# EAGLE library part IP4252CZ8-4-TTL,13 (library Filters)
FILTER RC(PI) 40 OHM/12PF SMD Manufacturer's datasheet <https://assets.nexperia.com/documents/data-sheet/IP4251_52_53_54-TTL.pdf>
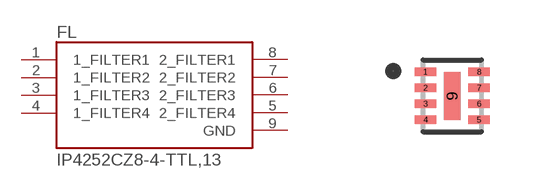
[diagram p10: symbol with the pads of UFDFN-08; footprint UFDFN-08]

Designator prefix FL

## IP4252CZ8-4-TTL,13 (CREATED_BY: PCBLayout.com; DIGIKEY_PARTNO: 1727-1267-2-ND; MANUFACTURER: Nexperia USA Inc.; MPN: IP4252CZ8-4-TTL,13; PACKAGE: 8-UFDFN)  [UFDFN-08]
1  1_FILTER1  pas
2  1_FILTER2  pas
3  1_FILTER3  pas
4  1_FILTER4  pas
5  2_FILTER4  pas
6  2_FILTER3  pas
7  2_FILTER2  pas
8  2_FILTER1  pas
9  GND  pas

## Footprint UFDFN-08 (pad centres in mm)
Small Outline No-Lead (SON with Tab), 0.40 mm pitch; 8 pin, 1.70 mm L X 1.35 mm W X 0.127 mm H body PCB Libraries Packages
smd 0.54 x 0.22: 1 -0.67,0.6; 2 -0.67,0.2; 3 -0.67,-0.2; 4 -0.67,-0.6; 5 0.67,-0.6; 6 0.67,-0.2; 7 0.67,0.2; 8 0.67,0.6
smd 0.4 x 1.2: 9 0,0